# Altium integrated library WP-TGTR.intlib: 4 symbols
Pins are listed as number, name and electrical type; pins without a type are passive.

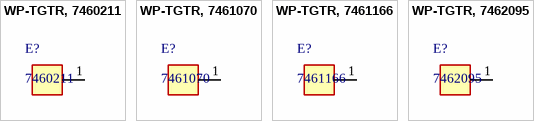
[diagram p0: symbols WP-TGTR, 7460211 to WP-TGTR, 7462095]

## WP-TGTR, 7460211
designator E?, comment 7460211
WP-TGTR Two Part Ground Element, Ø7.3mm, thrh 3.1mm; Manufacturer: Wurth Elektronik; partNo: 7460211; ComponentLink1Description: Manufacturer; ComponentLink1URL: http://www.we-online.de; Created by: Baojun Chen; Created Date: Dec.2015; ComponentLink2Description: Datasheet; ComponentLink2URL: http://katalog.we-online.de/em/datasheet/7460211.pdf
footprint 7460211 (?7.3mm, thrh 3.1mm)
pins: 1

## WP-TGTR, 7461070
designator E?, comment 7461070
WP-TGTR Two Part Ground Element, Ø5.5mm, thrh 3.1mm; Manufacturer: Wurth Elektronik; partNo: 7461070; ComponentLink1Description: Manufacturer; ComponentLink1URL: http://www.we-online.de; Created by: Baojun Chen; Created Date: Dec.2015; ComponentLink2Description: Datasheet; ComponentLink2URL: http://katalog.we-online.de/em/datasheet/7461070.pdf
footprint 7461070 (?5.5mm, thrh 3.1mm)
pins: 1

## WP-TGTR, 7461166
designator E?, comment 7461166
WP-TGTR Two Part Ground Element, Ø9.8mm, thrh 3.1mm; Manufacturer: Wurth Elektronik; partNo: 7461166; ComponentLink1Description: Manufacturer; ComponentLink1URL: http://www.we-online.de; Created by: Baojun Chen; Created Date: Dec.2015; ComponentLink2Description: Datasheet; ComponentLink2URL: http://katalog.we-online.de/em/datasheet/7461166.pdf
footprint 7461166 (?9.8mm, thrh 3.1mm)
pins: 1

## WP-TGTR, 7462095
designator E?, comment 7462095
WP-TGTR Two Part Ground Element, Ø10.5mm, thrh 3.1mm; Manufacturer: Wurth Elektronik; partNo: 7462095; ComponentLink1Description: Manufacturer; ComponentLink1URL: http://www.we-online.de; Created by: Baojun Chen; Created Date: Dec.2015; ComponentLink2Description: Datasheet; ComponentLink2URL: http://katalog.we-online.de/em/datasheet/7462095.pdf
footprint 7462095 (?10.5mm, thrh 3.1mm)
pins: 1